# EAGLE library part QT102 (library LITTLEBITS140915)
QUANTUM QTouch Toggle-Mode Charge-Transfer IC QT102
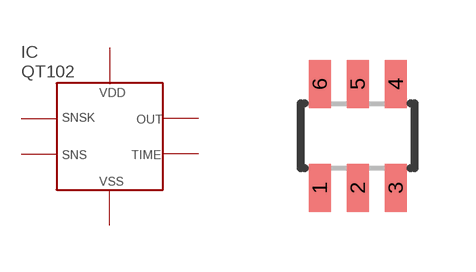
[diagram p3: symbol with the pads of SOT23-6; footprint SOT23-6]

Designator prefix IC

## QT102  [SOT23-6]
1  OUT
2  VSS
3  SNSK
4  SNS
5  VDD
6  TIME

## Footprint SOT23-6 (pad centres in mm)
smd 0.55 x 1.2: 1 -0.95,-1.3; 2 0,-1.3; 3 0.95,-1.3; 4 0.95,1.3; 5 0,1.3; 6 -0.95,1.3